# EAGLE library part IXGK400N30A3_2 (library RoboJackets-Discrete)
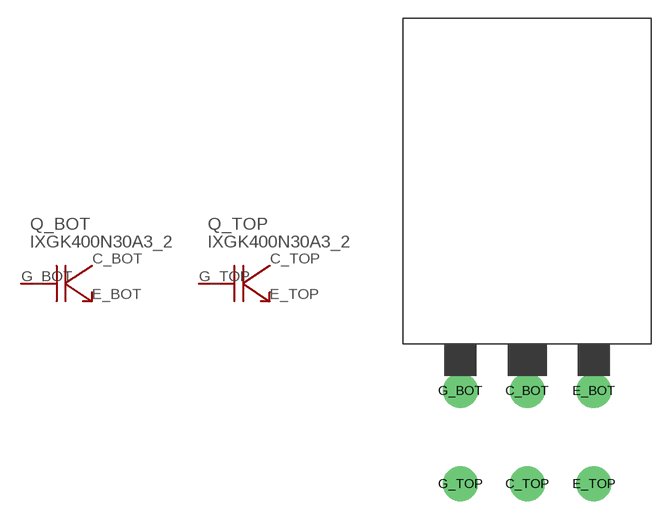
[diagram p1: symbol with the pads of TO264_2; footprint TO264_2]

Designator prefix Q; gates _BOT=IGBT_1 _TOP=IGBT_1

## IXGK400N30A3_2  [TO264_2]
C_BOT  _BOT:C
C_TOP  _TOP:C
E_BOT  _BOT:E
E_TOP  _TOP:E
G_BOT  _BOT:G
G_TOP  _TOP:G

## Footprint TO264_2 (pad centres in mm)
drill 1.905: C_BOT 0,-6.35; C_TOP 0,-13.97; E_BOT 5.461,-6.35; E_TOP 5.461,-13.97; G_BOT -5.461,-6.35; G_TOP -5.461,-13.97